# Altium footprint library FMCW-Radar-v1.PcbLib: 49 footprints (part 2 of 4)
Each footprint in its own frame and in the unit in brackets; x right, y up, seen from the top. Pads: shape width x height; smd on the part's side, far side on the other; paste and mask are expansions set on the pad; w line width, h text height; cw(c..) or ccw(c..) is an arc to the next point about the centre after c.
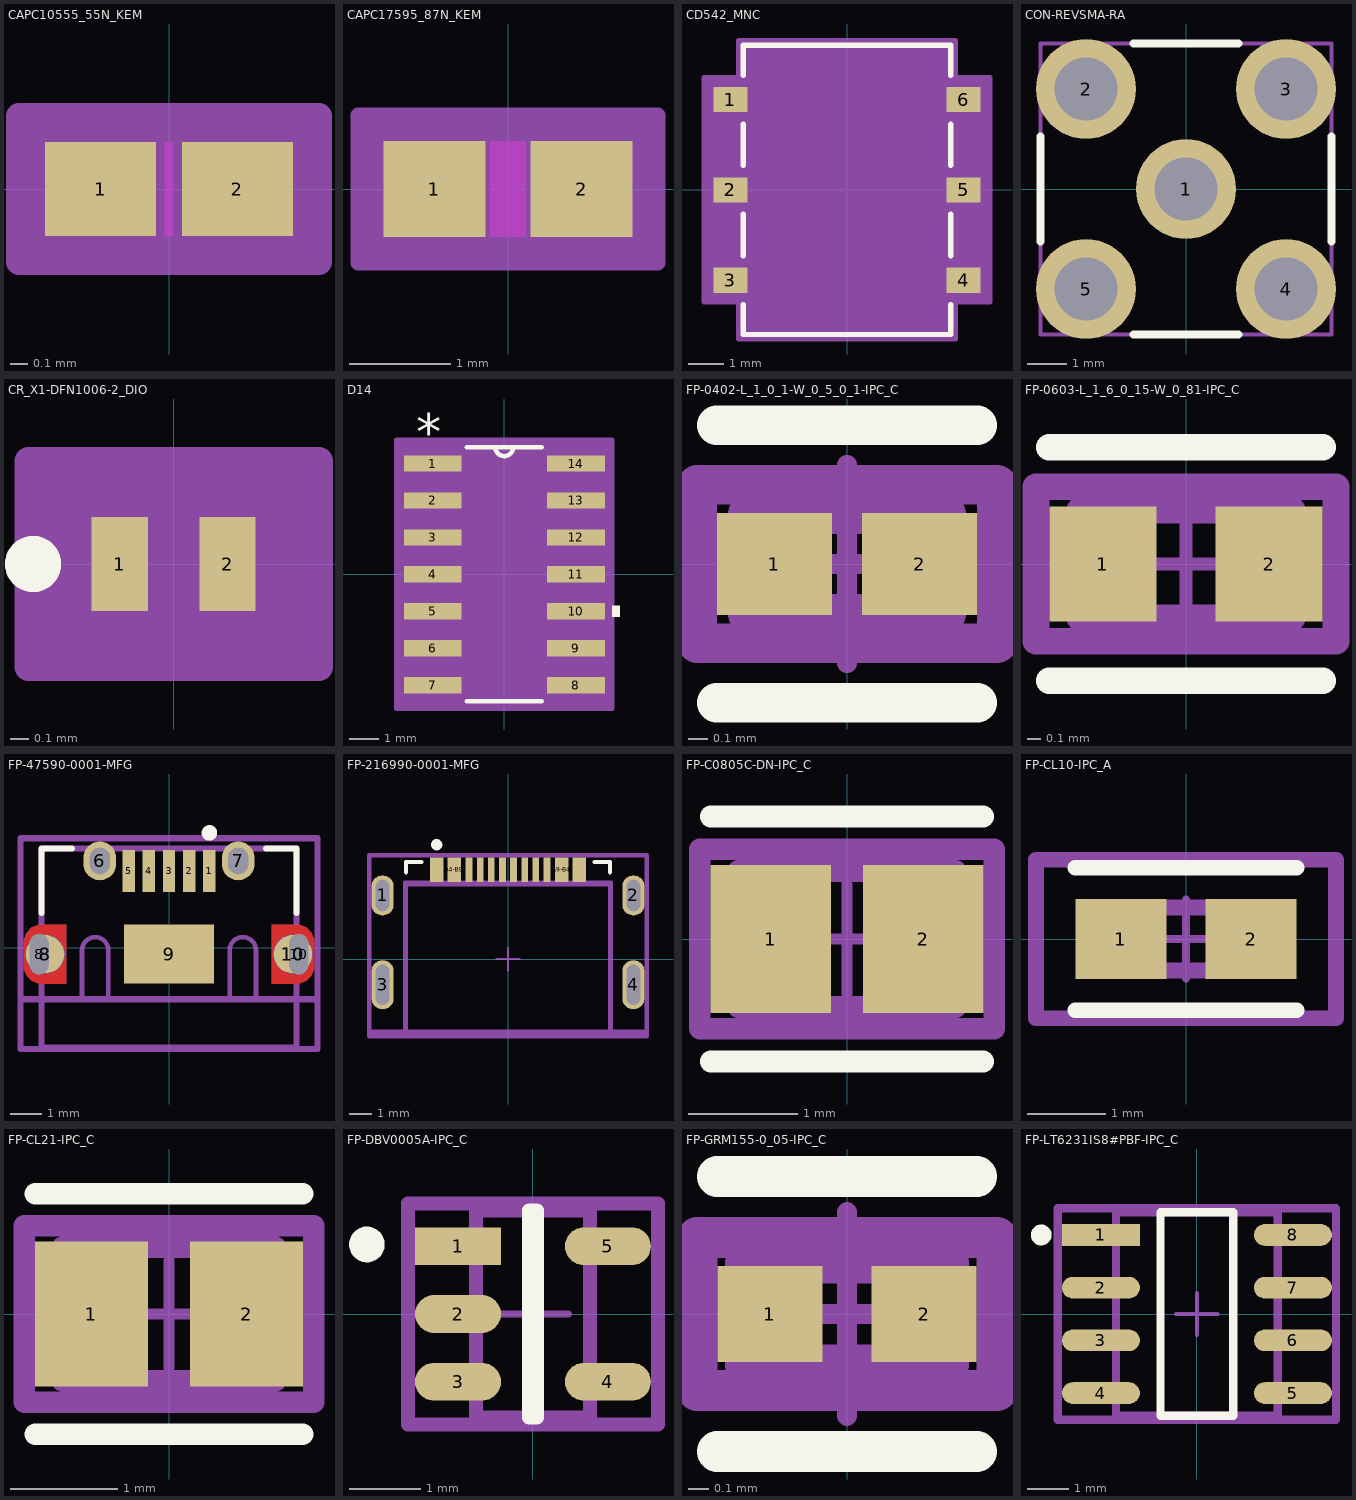
[diagram p1: the footprints below, top view; thin cyan lines are the x and y axes]

## CAPC10555_55N_KEM [mm]
pads (2):
  rect 0.653x0.55 smd paste+0 mask+0: 1(-0.402,0) 2(0.402,0)
Top Layer keep-out:
  region: -0.024,-0.224 -0.024,0.224 0.024,0.224 0.024,-0.224
Keep-Out Layer:
  region: -0.024,-0.275 -0.024,0.275 0.024,0.275 0.024,-0.275
Top 3D Body:
  lines w0.025: -0.525,-0.275 -0.525,0.275 ; -0.525,-0.275 0.525,-0.275 ; -0.525,-0.275 -0.125,-0.275 -0.125,0.275 -0.525,0.275 ; -0.525,-0.275 -0.525,0.275 ; -0.525,0.275 0.525,0.275 ; 0.525,-0.275 0.525,0.275 ; 0.525,-0.275 0.525,0.275 ; 0.525,-0.275 0.125,-0.275 0.125,0.275 0.525,0.275
Top Courtyard:
  region: 0.881,-0.427 -0.881,-0.427 -0.881,0.427 0.881,0.427
  lines w0.152: -0.881,-0.427 0.881,-0.427 0.881,0.427 -0.881,0.427 -0.881,-0.427
3D body "CAPC10555_55N_KEM.step": height 0.55, standoff 0, extent -0.525,-0.275 0.525,0.275

## CAPC17595_87N_KEM [mm]
pads (2):
  rect 1.006x0.95 smd paste+0 mask+0: 1(-0.728,0) 2(0.728,0)
Top Layer keep-out:
  region: -0.174,-0.424 -0.174,0.424 0.174,0.424 0.174,-0.424
Keep-Out Layer:
  region: -0.174,-0.475 -0.174,0.475 0.174,0.475 0.174,-0.475
Top 3D Body:
  lines w0.025: -0.875,-0.475 -0.875,0.475 ; -0.875,-0.475 -0.375,-0.475 -0.375,0.475 -0.875,0.475 ; -0.875,-0.475 0.875,-0.475 ; -0.875,-0.475 -0.875,0.475 ; -0.875,0.475 0.875,0.475 ; 0.875,-0.475 0.375,-0.475 0.375,0.475 0.875,0.475 ; 0.875,-0.475 0.875,0.475 ; 0.875,-0.475 0.875,0.475
Top Courtyard:
  region: 1.485,-0.729 -1.485,-0.729 -1.485,0.729 1.485,0.729
  lines w0.152: -1.485,-0.729 -1.485,0.729 1.485,0.729 1.485,-0.729 -1.485,-0.729
3D body "CAPC17595_87N_KEM.step": height 0.87, standoff 0, extent -0.875,-0.475 0.875,0.475

## CD542_MNC [mil]
pads (6):
  rect 38x28 smd paste+0 mask+0: 1(-129,100) 2(-129,0) 3(-129,-100) 4(129,-100) 5(129,0) 6(129,100)
Top Overlay:
  lines w6: -115,-127.1 -115,-160 115,-160 115,-127.1 ; -115,-72.9 -115,-27.1 ; -115,27.1 -115,72.9 ; -115,127.1 -115,160 115,160 115,127.1 ; 115,-72.9 115,-27.1 ; 115,27.1 115,72.9
Top 3D Body:
  circle w0: c-110,100 r3
  lines w0: -12,155 ccw(c0,155) 12,155
  lines w1: -110,-155 -110,155 110,155 110,-155 -110,-155
Top Courtyard:
  region: -120,-124 -158,-124 -158,124 -120,124 -120,165 120,165 120,124 158,124 158,-124 120,-124 120,-165 -120,-165
  lines w6: -158,-124 -120,-124 -120,-165 120,-165 120,-124 158,-124 158,124 120,124 120,165 -120,165 -120,124 -158,124 -158,-124
3D body "CD542_MNC.step": height 112.09, standoff 0, extent -135.98,-155 135.98,155

## CON-REVSMA-RA [mil] "Connector, RP-SMA Female, 5-Lead, Thru-Hole, Right-Angle, Body 7x7mm"
height 409.45
pads (5):
  round 100 hole 63: 1(0,0) 2(-100,100) 3(100,100) 4(100,-100) 5(-100,-100)
Top Overlay:
  lines w7.87: -145.67,-52.68 -145.67,52.68 ; -52.68,-145.67 52.68,-145.67 ; -52.68,145.67 52.68,145.67 ; 145.67,-52.68 145.67,52.68
Top 3D Body:
  lines w3.94: -145.67,-145.67 145.67,-145.67 145.67,145.67 -145.67,145.67 -145.67,-145.67
Top Courtyard:
  lines w3.94: -19.69,0 19.68,0 ; 0,-19.68 0,19.69

## CR_X1-DFN1006-2_DIO [mil]
pads (2):
  rect 12x20 smd paste+0 mask+0: 1(-11.5,0) 2(11.5,0)
Top Overlay:
  circle w6: c-30,0 r3
Top 3D Body:
  circle w0: c0,0 r3
  lines w1: -21,-12 -21,12 21,12 21,-12 -21,-12
Top Courtyard:
  region: -31,-20 -31,20 -31,22 31,22 31,20 31,-20 31,-22 -31,-22
  lines w6: -31,-22 31,-22 31,-20 31,20 31,22 -31,22 -31,20 -31,-20 -31,-22
3D body "CR_X1-DFN1006-2_DIO.step": height 21.1, standoff 0, extent -20.98,-12.01 20.98,12.01

## D14 [mil]
pads (14):
  rect 78x22 smd paste-39 mask-39: 1(-97,150) 2(-97,100) 3(-97,50) 4(-97,0) 5(-97,-50) 6(-97,-100) 7(-97,-150) 8(97,-150) 9(97,-100) 10(97,-50) 11(97,0) 12(97,50) 13(97,100) 14(97,150)
Top Overlay:
  region: 146,-42.5 156,-42.5 156,-57.5 146,-57.5
  lines w6: -50.89,-172 50.89,-172 ; -50.89,172 50.89,172 ; -12,172 ccw(c0,172) 12,172
  text "*" at -119.5,167 h50
Top 3D Body:
  lines w0: -12,172 ccw(c0,172) 12,172
  lines w1: -122,-160 -78.5,-160 -78.5,-140 -122,-140 -122,-160 ; -122,-110 -78.5,-110 -78.5,-90 -122,-90 -122,-110 ; -122,-60 -78.5,-60 -78.5,-40 -122,-40 -122,-60 ; -122,-10 -78.5,-10 -78.5,10 -122,10 -122,-10 ; -122,40 -78.5,40 -78.5,60 -122,60 -122,40 ; -122,90 -78.5,90 -78.5,110 -122,110 -122,90 ; -122,140 -78.5,140 -78.5,160 -122,160 -122,140 ; -78.5,-172 -78.5,172 78.5,172 78.5,-172 -78.5,-172 ; 78.5,-160 122,-160 122,-140 78.5,-140 78.5,-160 ; 78.5,-110 122,-110 122,-90 78.5,-90 78.5,-110 ; 78.5,-60 122,-60 122,-40 78.5,-40 78.5,-60 ; 78.5,-10 122,-10 122,10 78.5,10 78.5,-10 ; 78.5,40 122,40 122,60 78.5,60 78.5,40 ; 78.5,90 122,90 122,110 78.5,110 78.5,90 ; 78.5,140 122,140 122,160 78.5,160 78.5,140
  text "*" at -119.5,167 h50
Top Courtyard:
  region: 146,-182 -146,-182 -146,182 146,182
  lines w6: -146,-182 146,-182 146,182 -146,182 -146,-182
3D body "D14.step": height 69.09, standoff 0, extent -122.01,-172.01 122.01,172.01

## FP-0402-L_1_0_1-W_0_5_0_1-IPC_C [mm]
pads (2):
  rect 0.581x0.512 smd paste+0 mask+0: 1(-0.366,0) 2(0.366,0)
Top Overlay:
  lines w0.2: -0.656,-0.7 0.656,-0.7 ; -0.656,0.7 0.656,0.7
Top Assembly:
  lines w0.2: -0.756,-0.4 -0.756,0.4 0.756,0.4 0.756,-0.4 -0.756,-0.4
  text ".Designator" at 0,0.188 h1
Top 3D Body:
  lines w0.2: -0.5,-0.25 -0.5,0.25 0.5,0.25 0.5,-0.25 -0.5,-0.25
Top Courtyard:
  lines w0.2: -0.756,-0.4 -0.756,0.4 0.756,0.4 0.756,-0.4 -0.756,-0.4
Top Component Center:
  lines w0.1: -0.5,0 0.5,0 ; 0,-0.5 0,0.5
3D body "Cap_AVX_04025C472KAT2A_eec.STEP": height 0.25, standoff 0, extent -0.756,-0.4 0.756,0.4

## FP-0603-L_1_6_0_15-W_0_81-IPC_C [mm]
pads (2):
  rect 0.807x0.868 smd paste+0 mask+0: 1(-0.626,0) 2(0.626,0)
Top Overlay:
  lines w0.2: -1.029,-0.88 1.029,-0.88 ; -1.029,0.88 1.029,0.88
Top Assembly:
  lines w0.2: -1.129,-0.58 -1.129,0.58 1.129,0.58 1.129,-0.58 -1.129,-0.58
  text ".Designator" at 0,0.188 h1
Top 3D Body:
  lines w0.2: -0.8,-0.405 -0.8,0.405 0.8,0.405 0.8,-0.405 -0.8,-0.405
Top Courtyard:
  lines w0.2: -1.129,-0.58 -1.129,0.58 1.129,0.58 1.129,-0.58 -1.129,-0.58
Top Component Center:
  lines w0.1: -0.5,0 0.5,0 ; 0,-0.5 0,0.5
3D body "Cap_AVX_0603YA0R5BAT2A_eec.STEP": height 0.25, standoff 0, extent -1.129,-0.58 1.129,0.58

## FP-47590-0001-MFG [mm]
pads (14):
  rect 0.4x1.35 smd paste+0 mask+0: 1(1.3,2.475) 2(0.65,2.475) 3(0,2.475) 4(-0.65,2.475) 5(-1.3,2.475)
  rrect100% 1.05x1.25 hole 0.85 slot 0.65 at 0 deg paste-2539.97 mask+0: 6(-2.225,2.8) 7(2.225,2.8)
  rrect100% 0.6x1.3 hole 1.3 slot 0.6 at 0 deg paste-2539.97 mask+0: 8(-4.175,-0.2) 10(4.175,-0.2)
  round 1.238 smd paste-1000 mask+0: 8(-3.988,-0.2) 10(3.988,-0.2)
  round 1.238 smd far side paste-1000 mask+0: 8(-3.988,-0.2) 10(3.988,-0.2)
  rect 2.9x1.9 smd paste+0 mask+0: 9(0,-0.2)
Top Layer:
  region: 3.3,0.75 4.075,0.75 4.194,0.75 4.415,0.659 4.584,0.49 4.675,0.269 4.675,0.15 4.675,-0.55 4.675,-0.669 4.584,-0.89 4.415,-1.059 4.194,-1.15 4.075,-1.15 3.3,-1.15
  region: -3.3,-1.15 -4.075,-1.15 -4.194,-1.15 -4.415,-1.059 -4.584,-0.89 -4.675,-0.669 -4.675,-0.55 -4.675,0.15 -4.675,0.269 -4.584,0.49 -4.415,0.659 -4.194,0.75 -4.075,0.75 -3.3,0.75
Bottom Layer:
  region: 3.3,0.75 4.075,0.75 4.194,0.75 4.415,0.659 4.584,0.49 4.675,0.269 4.675,0.15 4.675,-0.55 4.675,-0.669 4.584,-0.89 4.415,-1.059 4.194,-1.15 4.075,-1.15 3.3,-1.15
  region: -3.3,-1.15 -4.075,-1.15 -4.194,-1.15 -4.415,-1.059 -4.584,-0.89 -4.675,-0.669 -4.675,-0.55 -4.675,0.15 -4.675,0.269 -4.584,0.49 -4.415,0.659 -4.194,0.75 -4.075,0.75 -3.3,0.75
Top Overlay:
  circle w0.25: c1.3,3.7 r0.125
  lines w0.2: -4.1,1.125 -4.1,3.2 -3.125,3.2 ; 3.125,3.2 4.1,3.2 4.1,1.125
Board:
  lines w0.15: -2.8,-1.65 -2.8,-0.075 cw(c-2.375,-0.078) -1.95,-0.075 -1.95,-1.65 ; 1.95,-1.65 1.95,-0.075 cw(c2.375,-0.078) 2.8,-0.075 2.8,-1.65
Top Assembly:
  lines w0.2: -4.775,-3.25 -4.775,3.525 4.775,3.525 4.775,-3.25 -4.775,-3.25
  text ".Designator" at 0,0.325 h1
Top 3D Body:
  lines w0.2: -4.775,-1.65 4.775,-1.65 ; -4.1,-3.2 -4.1,3.2 4.1,3.2 4.1,-3.2 -4.1,-3.2
Top Courtyard:
  lines w0.2: -4.775,-3.25 -4.775,3.525 4.775,3.525 4.775,-3.25 -4.775,-3.25
Top Component Center:
  lines w0.1: -0.5,0 0.5,0 ; 0,-0.5 0,0.5
3D body "Conn_Molex_47590-0001_eec.STEP": height 0.25, standoff 0, extent -4.775,-3.25 4.775,3.525

## FP-216990-0001-MFG [mm]
pads (16):
  rrect100% 1x1.8 hole 1.4 slot 0.6 at 0 deg paste-2539.97 mask+0: 1(-5.62,2.85) 2(5.62,2.85)
  rrect100% 1x2.2 hole 1.8 slot 0.6 at 0 deg paste-2539.97 mask+0: 3(-5.62,-1.15) 4(5.62,-1.15)
  rect 0.6x1.1 smd paste+0 mask+0: A1-B12(-3.2,4) A4-B9(-2.4,4) A9-B4(2.4,4) A12-B1(3.2,4)
  rect 0.3x1.1 smd paste+0 mask+0: A5(-1.25,4) A6(-0.25,4) A7(0.25,4) A8(1.25,4) B5(1.75,4) B6(0.75,4) B7(-0.75,4) B8(-1.75,4)
Top Overlay:
  circle w0.25: c-3.195,5.125 r0.125
  lines w0.2: -4.57,3.9 -4.57,4.35 -3.875,4.35 ; 3.875,4.35 4.57,4.35 4.57,3.9
Board:
  lines w0.15: -4.62,-3.25 -4.62,3.45 4.62,3.45 4.62,-3.25
Top Assembly:
  lines w0.2: -6.22,-3.45 -6.22,4.65 6.22,4.65 6.22,-3.45 -6.22,-3.45
  text ".Designator" at 0,0.788 h1
Top 3D Body:
  lines w0.2: -6.22,-3.25 6.22,-3.25 ; -4.57,-3.35 -4.57,3.35 4.57,3.35 4.57,-3.35 -4.57,-3.35
Top Courtyard:
  lines w0.2: -6.22,-3.45 -6.22,4.65 6.22,4.65 6.22,-3.45 -6.22,-3.45
Top Component Center:
  lines w0.1: -0.5,0 0.5,0 ; 0,-0.5 0,0.5
3D body "Conn_Molex_216990-0001_eec.STEP": height 0.25, standoff 0, extent -6.22,-3.45 6.22,4.65

## FP-C0805C-DN-IPC_C [mm]
pads (2):
  rect 1.105x1.356 smd paste+0 mask+0: 1(-0.701,0) 2(0.701,0)
Top Overlay:
  lines w0.2: -1.253,-1.125 1.253,-1.125 ; -1.253,1.125 1.253,1.125
Top Assembly:
  lines w0.2: -1.353,-0.825 1.353,-0.825 1.353,0.825 -1.353,0.825 -1.353,-0.825
  text ".Designator" at 0,0.188 h1
Top 3D Body:
  lines w0.2: -1,-0.625 1,-0.625 1,0.625 -1,0.625 -1,-0.625
Top Courtyard:
  lines w0.2: -1.353,-0.825 1.353,-0.825 1.353,0.825 -1.353,0.825 -1.353,-0.825
Top Component Center:
  lines w0.1: -0.5,0 0.5,0 ; 0,-0.5 0,0.5
3D body "Cap_KEMET_C0805C472J3HAC_eec.STEP": height 0.25, standoff 0, extent -1.353,-0.825 1.353,0.825

## FP-CL10-IPC_A [mm]
pads (2):
  rect 1.158x1.012 smd paste+0 mask+0: 1(-0.827,0) 2(0.827,0)
Top Overlay:
  lines w0.2: -1.406,-0.906 1.406,-0.906 ; -1.406,0.906 1.406,0.906
Top Assembly:
  lines w0.2: -1.906,-1.006 -1.906,1.006 1.906,1.006 1.906,-1.006 -1.906,-1.006
  text ".Designator" at 0,0.188 h1
Top 3D Body:
  lines w0.2: -0.8,-0.4 -0.8,0.4 0.8,0.4 0.8,-0.4 -0.8,-0.4
Top Courtyard:
  lines w0.2: -1.906,-1.006 -1.906,1.006 1.906,1.006 1.906,-1.006 -1.906,-1.006
Top Component Center:
  lines w0.1: -0.5,0 0.5,0 ; 0,-0.5 0,0.5
3D body "Cap_Samsung_CL10B473KO8NNWC_eec.STEP": height 0.25, standoff 0, extent -1.906,-1.006 1.906,1.006

## FP-CL21-IPC_C [mm]
pads (2):
  rect 1.055x1.356 smd paste+0 mask+0: 1(-0.726,0) 2(0.726,0)
Top Overlay:
  lines w0.2: -1.253,-1.125 1.253,-1.125 ; -1.253,1.125 1.253,1.125
Top Assembly:
  lines w0.2: -1.353,-0.825 -1.353,0.825 1.353,0.825 1.353,-0.825 -1.353,-0.825
  text ".Designator" at 0,0.188 h1
Top 3D Body:
  lines w0.2: -1,-0.625 -1,0.625 1,0.625 1,-0.625 -1,-0.625
Top Courtyard:
  lines w0.2: -1.353,-0.825 -1.353,0.825 1.353,0.825 1.353,-0.825 -1.353,-0.825
Top Component Center:
  lines w0.1: -0.5,0 0.5,0 ; 0,-0.5 0,0.5
3D body "Cap_Samsung_CL21B273KBANNNC_eec.STEP": height 0.25, standoff 0, extent -1.353,-0.825 1.353,0.825

## FP-DBV0005A-IPC_C [mm]
pads (5):
  rect 1.205x0.532 smd paste+0 mask+0: 1(-1.05,0.95)
  rrect100% 1.205x0.532 smd paste+0 mask+0: 2(-1.05,0) 3(-1.05,-0.95) 4(1.05,-0.95) 5(1.05,0.95)
Top Overlay:
  circle w0.25: c-2.328,0.975 r0.125
  lines w0.2: -0.052,-1.45 0.052,-1.45 0.052,1.45 -0.052,1.45 -0.052,-1.45
Top Assembly:
  lines w0.2: -1.753,-1.55 -1.753,1.55 1.753,1.55 1.753,-1.55 -1.753,-1.55
  text ".Designator" at 0,0.188 h1
Top 3D Body:
  lines w0.2: -0.8,-1.45 -0.8,1.45 0.8,1.45 0.8,-1.45 -0.8,-1.45
Top Courtyard:
  lines w0.2: -1.753,-1.55 -1.753,1.55 1.753,1.55 1.753,-1.55 -1.753,-1.55
Top Component Center:
  lines w0.1: -0.5,0 0.5,0 ; 0,-0.5 0,0.5
3D body "IC_Texas_Instruments_SN74AHC1G00DBVR_eec.STEP": height 0.25, standoff 0, extent -1.753,-1.55 1.753,1.55

## FP-GRM155-0_05-IPC_C [mm]
pads (2):
  rect 0.515x0.472 smd paste+0 mask+0: 1(-0.379,0) 2(0.379,0)
Top Overlay:
  lines w0.2: -0.636,-0.675 0.636,-0.675 ; -0.636,0.675 0.636,0.675
Top Assembly:
  lines w0.2: -0.736,-0.375 0.736,-0.375 0.736,0.375 -0.736,0.375 -0.736,-0.375
  text ".Designator" at 0,0.188 h1
Top 3D Body:
  lines w0.2: -0.5,-0.25 0.5,-0.25 0.5,0.25 -0.5,0.25 -0.5,-0.25
Top Courtyard:
  lines w0.2: -0.736,-0.375 0.736,-0.375 0.736,0.375 -0.736,0.375 -0.736,-0.375
Top Component Center:
  lines w0.1: -0.5,0 0.5,0 ; 0,-0.5 0,0.5
3D body "Cap_Murata_GRM1552C1H271GA01J_eec.STEP": height 0.25, standoff 0, extent -0.736,-0.375 0.736,0.375

## FP-LT6231IS8#PBF-IPC_C [mm]
pads (8):
  rect 1.877x0.521 smd paste+0 mask+0: 1(-2.313,1.905)
  rrect100% 1.877x0.521 smd paste+0 mask+0: 2(-2.313,0.635) 3(-2.313,-0.635) 4(-2.313,-1.905) 5(2.313,-1.905) 6(2.313,-0.635) 7(2.313,0.635) 8(2.313,1.905)
Top Overlay:
  circle w0.25: c-3.752,1.905 r0.125
  lines w0.2: -0.875,-2.451 0.875,-2.451 0.875,2.451 -0.875,2.451 -0.875,-2.451
Top Assembly:
  lines w0.2: -3.352,-2.551 3.352,-2.551 3.352,2.551 -3.352,2.551 -3.352,-2.551
  text ".Designator" at 0,0.188 h1
Top 3D Body:
  lines w0.2: -1.95,-2.451 1.95,-2.451 1.95,2.451 -1.95,2.451 -1.95,-2.451
Top Courtyard:
  lines w0.2: -3.352,-2.551 3.352,-2.551 3.352,2.551 -3.352,2.551 -3.352,-2.551
Top Component Center:
  lines w0.1: -0.5,0 0.5,0 ; 0,-0.5 0,0.5
3D body "IC_Analog_Devices_LT6231IS8#PBF_eec.STEP": height 0.25, standoff 0, extent -3.352,-2.551 3.352,2.551